# EAGLE library part SAM_D21_MINI_BREAKOUT (library SparkFun-SAMD21-Mini-Breakout)
SPARKFUN-SAMD21-MINI-BREAKOUT
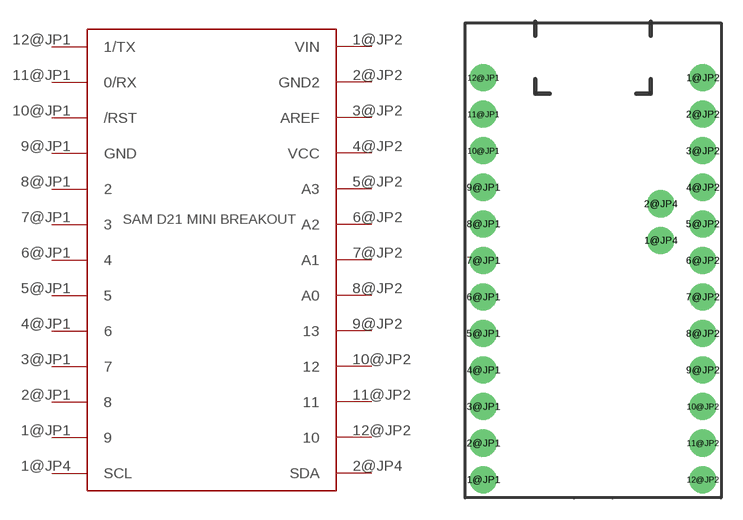
[diagram p0: symbol with the pads of JP1_SPARKFUN-SAMD21-MINI-BREAKOUT-V10; footprint JP1_SPARKFUN-SAMD21-MINI-BREAKOUT-V10]

Designator prefix -

## SAM_D21_MINI_BREAKOUT (PURCHASE_URL_DIGIKEY: https://www.digikey.ca/en/products/detail/sparkfun-electronics/DEV-13664/5766914?s=N4IgTCBcDaIM4EMC2ATMBGABEglgOx0wCMAnAUwQGsB7AVwBcQBdAXyA; PURCHASE_URL_SPARKFUN: https://www.sparkfun.com/products/13664)  [JP1_SPARKFUN-SAMD21-MINI-BREAKOUT-V10]
1@JP1  9
1@JP2  VIN  pwr
1@JP4  SCL
2@JP1  8
2@JP2  GND2  pwr
2@JP4  SDA
3@JP1  7
3@JP2  AREF  pwr
4@JP1  6
4@JP2  VCC  pwr
5@JP1  5
5@JP2  A3
6@JP1  4
6@JP2  A2
7@JP1  3
7@JP2  A1
8@JP1  2
8@JP2  A0
9@JP1  GND  pwr
9@JP2  13
10@JP1  /RST  in
10@JP2  12
11@JP1  0/RX
11@JP2  11
12@JP1  1/TX
12@JP2  10

## Footprint JP1_SPARKFUN-SAMD21-MINI-BREAKOUT-V10 (pad centres in mm)
Package generated by make-group2pac.ulp from: C:/Users/Shikhar/Desktop/cansat/sparkfun-samd21-mini-breakout-v10.brd at: 10-01-2019 11:06
drill 1.016 pad 1.88: 1@JP1 1.27,1.27; 1@JP2 16.51,29.21; 1@JP4 13.589,17.907; 2@JP1 1.27,3.81; 2@JP2 16.51,26.67; 2@JP4 13.589,20.447; 3@JP1 1.27,6.35; 3@JP2 16.51,24.13; 4@JP1 1.27,8.89; 4@JP2 16.51,21.59; 5@JP1 1.27,11.43; 5@JP2 16.51,19.05; 6@JP1 1.27,13.97; 6@JP2 16.51,16.51; 7@JP1 1.27,16.51; 7@JP2 16.51,13.97; 8@JP1 1.27,19.05; 8@JP2 16.51,11.43; 9@JP1 1.27,21.59; 9@JP2 16.51,8.89; 10@JP1 1.27,24.13; 10@JP2 16.51,6.35; 11@JP1 1.27,26.67; 11@JP2 16.51,3.81; 12@JP1 1.27,29.21; 12@JP2 16.51,1.27